# Altium schematic symbol library trafo.SCHLIB: 83 symbols
Pins are listed as number, name and electrical type; pins without a type are passive.

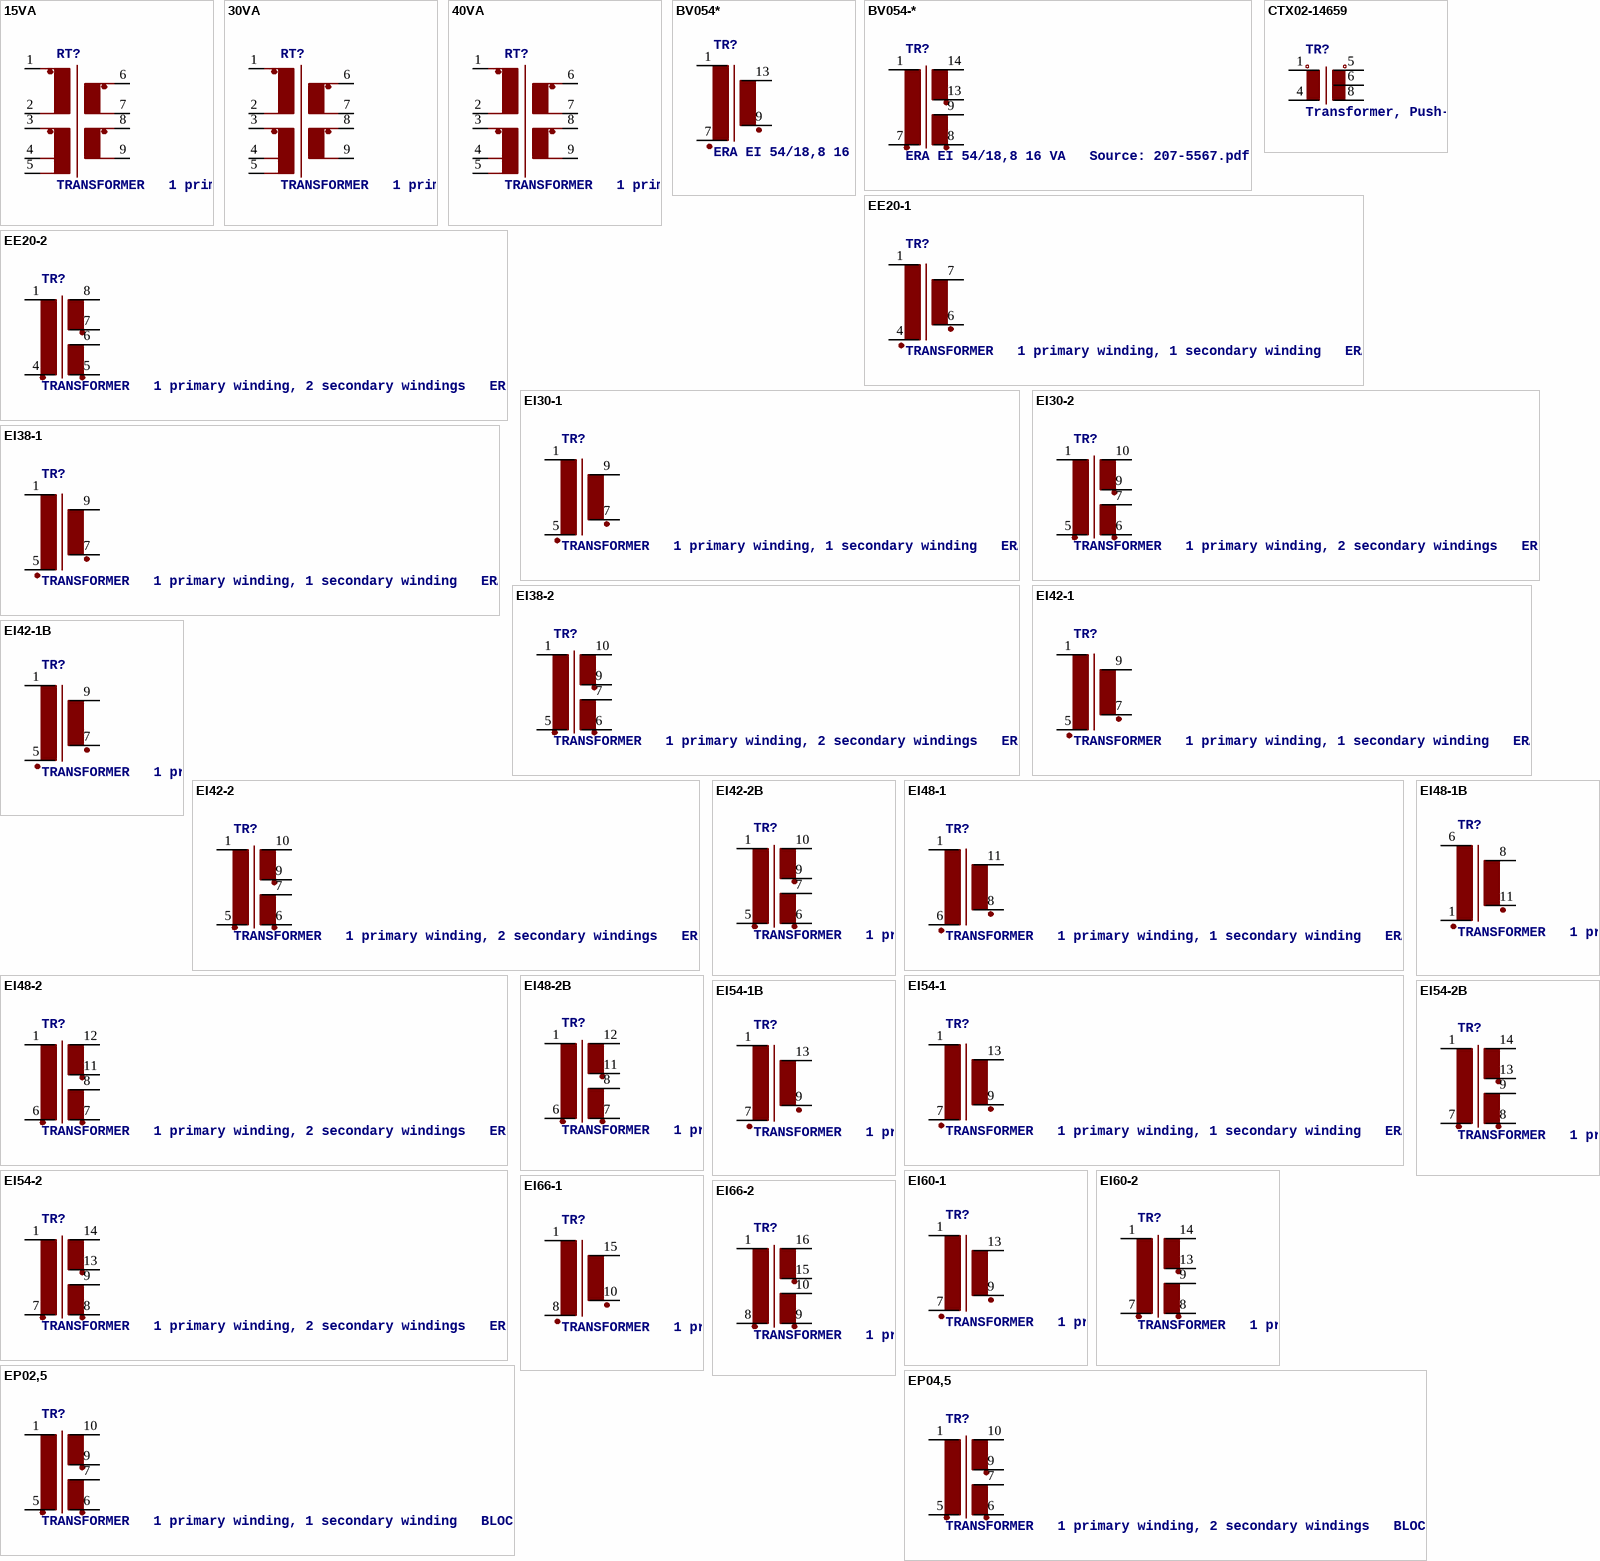
[diagram p0: symbols 15VA to EP04,5]

## 15VA
designator RT?, comment TRANSFORMER   1 primary windig + 1 primary winding with tap, 2 secondary windings, core ring
footprint 15VA
pins: 1, 2, 3, 4, 5, 6, 7, 8, 9

## 30VA
designator RT?, comment TRANSFORMER   1 primary windig + 1 primary winding with tap, 2 secondary windings, core ring
footprint 30VA
pins: 1, 2, 3, 4, 5, 6, 7, 8, 9

## 40VA
designator RT?, comment TRANSFORMER   1 primary windig + 1 primary winding with tap, 2 secondary windings, core ring
footprint 40VA
pins: 1, 2, 3, 4, 5, 6, 7, 8, 9

## BV054*
designator TR?, comment ERA EI 54/18,8 16 VA   Distributor: RS-Component RS 207-5523 230V / 9V RS 207-9727 230V - 12V RS 207-5551 230V - 15V RS 207-5539 230V - 18V RS 207-5567 230V - 24V Source: 207-5567.pdf
footprint EI54-18,8_16VA
pins: 1 P1, 7 P2, 9 S3, 13 S4

## BV054-*
designator TR?, comment ERA EI 54/18,8 16 VA   Source: 207-5567.pdf
footprint EI54-18,8_16VA
pins: 1, 7 2, 8 3, 9 4, 13 5, 14 6

## CTX02-14659
designator TR?, comment Transformer, Push-Pull 300kHz, 547uH, ER 9.5, SMT, gull wing, 8 pads   Source: COOPERE ELECTRONIC TECHNOLOGIES .. ctx02-14659.pdf
footprint CTX02-14659
pins: 1, 4 2, 5, 6 4, 8 3

## EE20-1
designator TR?, comment TRANSFORMER   1 primary winding, 1 secondary winding   ERA
footprint EE20-1
pins: 1 P1, 4 P2, 6 S3, 7 S4

## EE20-2
designator TR?, comment TRANSFORMER   1 primary winding, 2 secondary windings   ERA
footprint EE20-2
pins: 1, 4 2, 5 3, 6 4, 7 5, 8 6

## EI30-1
designator TR?, comment TRANSFORMER   1 primary winding, 1 secondary winding   ERA
footprint EI30-1
pins: 1 P1, 5 P2, 7 S3, 9 S4

## EI30-2
designator TR?, comment TRANSFORMER   1 primary winding, 2 secondary windings   ERA
footprint EI30-2
pins: 1, 5 2, 6 3, 7 4, 9 5, 10 6

## EI38-1
designator TR?, comment TRANSFORMER   1 primary winding, 1 secondary winding   ERA
footprint EI38-1
pins: 1 P1, 5 P2, 7 S3, 9 S4

## EI38-2
designator TR?, comment TRANSFORMER   1 primary winding, 2 secondary windings   ERA
footprint EI38-2
pins: 1, 5 2, 6 3, 7 4, 9 5, 10 6

## EI42-1
designator TR?, comment TRANSFORMER   1 primary winding, 1 secondary winding   ERA
footprint EI42-1
pins: 1 P1, 5 P2, 7 S3, 9 S4

## EI42-1B
designator TR?, comment TRANSFORMER   1 primary winding, 1 secondary winding, mounting holes   ERA
footprint EI42-1B
pins: 1 P1, 5 P2, 7 S3, 9 S4

## EI42-2
designator TR?, comment TRANSFORMER   1 primary winding, 2 secondary windings   ERA
footprint EI42-2
pins: 1, 5 2, 6 3, 7 4, 9 5, 10 6

## EI42-2B
designator TR?, comment TRANSFORMER   1 primary winding, 2 secondary windings, mounting holes   ERA
footprint EI42-2B
pins: 1, 5 2, 6 3, 7 4, 9 5, 10 6

## EI48-1
designator TR?, comment TRANSFORMER   1 primary winding, 1 secondary winding   ERA
footprint EI48-1
pins: 1 P1, 6 P2, 8 S3, 11 S4

## EI48-1B
designator TR?, comment TRANSFORMER   1 primary winding, 1 secondary winding, mounting holes   ERA
footprint EI48-1B
pins: 1 P2, 6 P1, 8 S4, 11 S3

## EI48-2
designator TR?, comment TRANSFORMER   1 primary winding, 2 secondary windings   ERA
footprint EI48-2
pins: 1, 6 2, 7 3, 8 4, 11 5, 12 6

## EI48-2B
designator TR?, comment TRANSFORMER   1 primary winding, 2 secondary windings, mounting holes   ERA
footprint EI48-2B
pins: 1, 6 2, 7 3, 8 4, 11 5, 12 6

## EI54-1
designator TR?, comment TRANSFORMER   1 primary winding, 1 secondary winding   ERA
footprint EI54-1
pins: 1 P1, 7 P2, 9 S3, 13 S4

## EI54-1B
designator TR?, comment TRANSFORMER   1 primary winding, 1 secondary winding, mounting holes   ERA
footprint EI54-1B
pins: 1 P1, 7 P2, 9 S3, 13 S4

## EI54-2
designator TR?, comment TRANSFORMER   1 primary winding, 2 secondary windings   ERA
footprint EI54-2
pins: 1, 7 2, 8 3, 9 4, 13 5, 14 6

## EI54-2B
designator TR?, comment TRANSFORMER   1 primary winding, 2 secondary windings, mounting holes   ERA
footprint EI54-2B
pins: 1, 7 2, 8 3, 9 4, 13 5, 14 6

## EI60-1
designator TR?, comment TRANSFORMER   1 primary winding, 1 secondary winding, mounting holes   ERA
footprint EI60-1
pins: 1 P1, 7 P2, 9 S3, 13 S4

## EI60-2
designator TR?, comment TRANSFORMER   1 primary winding, 2 secondary windings, mounting holes   ERA
footprint EI60-2
pins: 1, 7 2, 8 3, 9 4, 13 5, 14 6

## EI66-1
designator TR?, comment TRANSFORMER   1 primary winding, 1 secondary winding, mounting holes   ERA
footprint EI66-1
pins: 1 P1, 8 P2, 10 S3, 15 S4

## EI66-2
designator TR?, comment TRANSFORMER   1 primary winding, 2 secondary windings, mounting holes   ERA
footprint EI66-2
pins: 1, 8 2, 9 3, 10 4, 15 5, 16 6

## EP02,5
designator TR?, comment TRANSFORMER   1 primary winding, 1 secondary winding   BLOCK
footprint EP02,5
pins: 1, 5 2, 6 3, 7 4, 9 5, 10 6

## EP04,5
designator TR?, comment TRANSFORMER   1 primary winding, 2 secondary windings   BLOCK
footprint EP04,5
pins: 1, 5 2, 6 3, 7 4, 9 5, 10 6

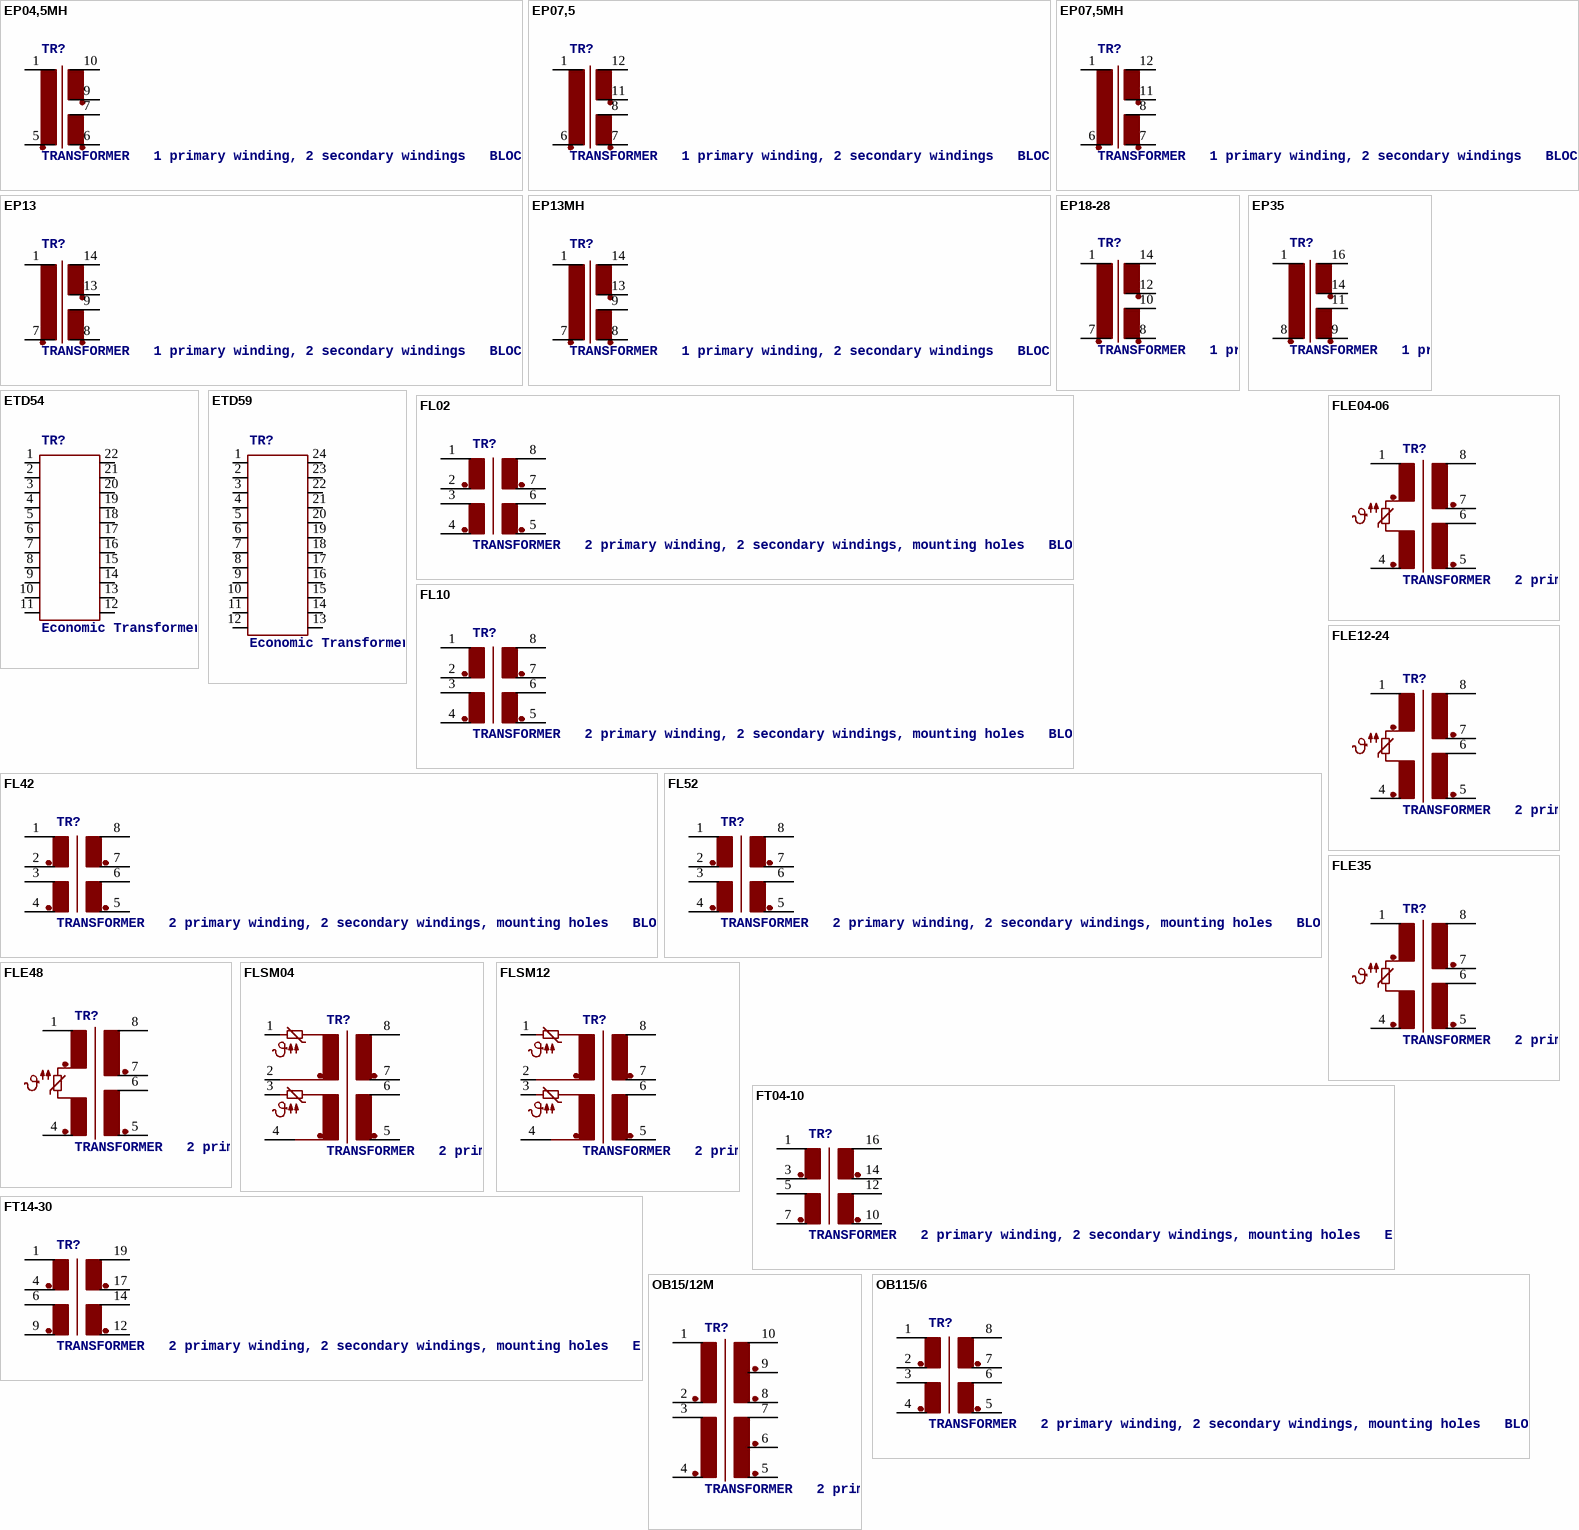
[diagram p1: symbols EP04,5MH to OB115/6]

## EP04,5MH
designator TR?, comment TRANSFORMER   1 primary winding, 2 secondary windings   BLOCK
footprint EP04,5B
pins: 1, 5 2, 6 3, 7 4, 9 5, 10 6

## EP07,5
designator TR?, comment TRANSFORMER   1 primary winding, 2 secondary windings   BLOCK
footprint EP07,5
pins: 1, 6 2, 7 3, 8 4, 11 5, 12 6

## EP07,5MH
designator TR?, comment TRANSFORMER   1 primary winding, 2 secondary windings   BLOCK
footprint EP07,5B
pins: 1, 6 2, 7 3, 8 4, 11 5, 12 6

## EP13
designator TR?, comment TRANSFORMER   1 primary winding, 2 secondary windings   BLOCK
footprint EP13
pins: 1, 7 2, 8 3, 9 4, 13 5, 14 6

## EP13MH
designator TR?, comment TRANSFORMER   1 primary winding, 2 secondary windings   BLOCK
footprint EP13B
pins: 1, 7 2, 8 3, 9 4, 13 5, 14 6

## EP18-28
designator TR?, comment TRANSFORMER   1 primary winding, 2 secondary windings, mounting holes   BLOCK
footprint EP18-28
pins: 1, 7 2, 8 3, 10 4, 12 5, 14 6

## EP35
designator TR?, comment TRANSFORMER   1 primary winding, 2 secondary windings, mounting holes   BLOCK
footprint EP35
pins: 1, 8 2, 9 3, 11 4, 14 5, 16 6

## ETD54
designator TR?, comment Economic Transformer Design   Source: www.hogenkamp-trafo.de .. ferrit_bauform.pdf
footprint ETD54
pins: 1, 2, 3, 4, 5, 6, 7, 8, 9, 10, 11, 12, 13, 14, 15, 16, 17, 18, 19, 20, 21, 22

## ETD59
designator TR?, comment Economic Transformer Design   Source: www.hogenkamp-trafo.de .. ferrit_bauform.pdf
footprint ETD59
pins: 1, 2, 3, 4, 5, 6, 7, 8, 9, 10, 11, 12, 13, 14, 15, 16, 17, 18, 19, 20, 21, 22, 23, 24

## FL02
designator TR?, comment TRANSFORMER   2 primary winding, 2 secondary windings, mounting holes   BLOCK
footprint FL02-08
pins: 1, 2, 3, 4, 5, 6, 7, 8

## FL10
designator TR?, comment TRANSFORMER   2 primary winding, 2 secondary windings, mounting holes   BLOCK
footprint FL10-30
pins: 1, 2, 3, 4, 5, 6, 7, 8

## FL42
designator TR?, comment TRANSFORMER   2 primary winding, 2 secondary windings, mounting holes   BLOCK
footprint FL42
pins: 1, 2, 3, 4, 5, 6, 7, 8

## FL52
designator TR?, comment TRANSFORMER   2 primary winding, 2 secondary windings, mounting holes   BLOCK
footprint FL52
pins: 1, 2, 3, 4, 5, 6, 7, 8

## FLE04-06
designator TR?, comment TRANSFORMER   2 primary winding, temp. protection fuse, 2 secondary windings, mounting holes   BLOCK
footprint FLE04-06
pins: 1, 4, 5, 6, 7, 8

## FLE12-24
designator TR?, comment TRANSFORMER   2 primary winding, temp. protection fuse, 2 secondary windings, mounting holes   BLOCK
footprint FLE12-24
pins: 1, 4, 5, 6, 7, 8

## FLE35
designator TR?, comment TRANSFORMER   2 primary winding, temp. protection fuse, 2 secondary windings, mounting holes   BLOCK
footprint FLE35
pins: 1, 4, 5, 6, 7, 8

## FLE48
designator TR?, comment TRANSFORMER   2 primary winding, temp. protection fuse, 2 secondary windings, mounting holes   BLOCK
footprint FLE48
pins: 1, 4, 5, 6, 7, 8

## FLSM04
designator TR?, comment TRANSFORMER   2 primary winding, temp. protection fuse, 2 secondary windings, smd pads, mounting holes   BLOCK
footprint FLSM04
pins: 1, 2, 3, 4, 5, 6, 7, 8

## FLSM12
designator TR?, comment TRANSFORMER   2 primary winding, temp. protection fuse, 2 secondary windings, smd pads,, mounting holes   BLOCK
footprint FLSM12
pins: 1, 2, 3, 4, 5, 6, 7, 8

## FT04-10
designator TR?, comment TRANSFORMER   2 primary winding, 2 secondary windings, mounting holes   ERA
footprint FT04-10
pins: 1, 3 2, 5 3, 7 4, 10 5, 12 6, 14 7, 16 8

## FT14-30
designator TR?, comment TRANSFORMER   2 primary winding, 2 secondary windings, mounting holes   ERA
footprint FT14-30
pins: 1, 4 2, 6 3, 9 4, 12 5, 14 6, 17 7, 19 8

## OB15/12M
designator TR?, comment TRANSFORMER   2 primary winding, 2 secondary windings with tap, mounting holes   BLOCK
footprint OB15/12M
pins: 1, 2, 3, 4, 5, 6, 7, 8, 9, 10

## OB115/6
designator TR?, comment TRANSFORMER   2 primary winding, 2 secondary windings, mounting holes   BLOCK
footprint OB115/6
pins: 1, 2, 3, 4, 5, 6, 7, 8

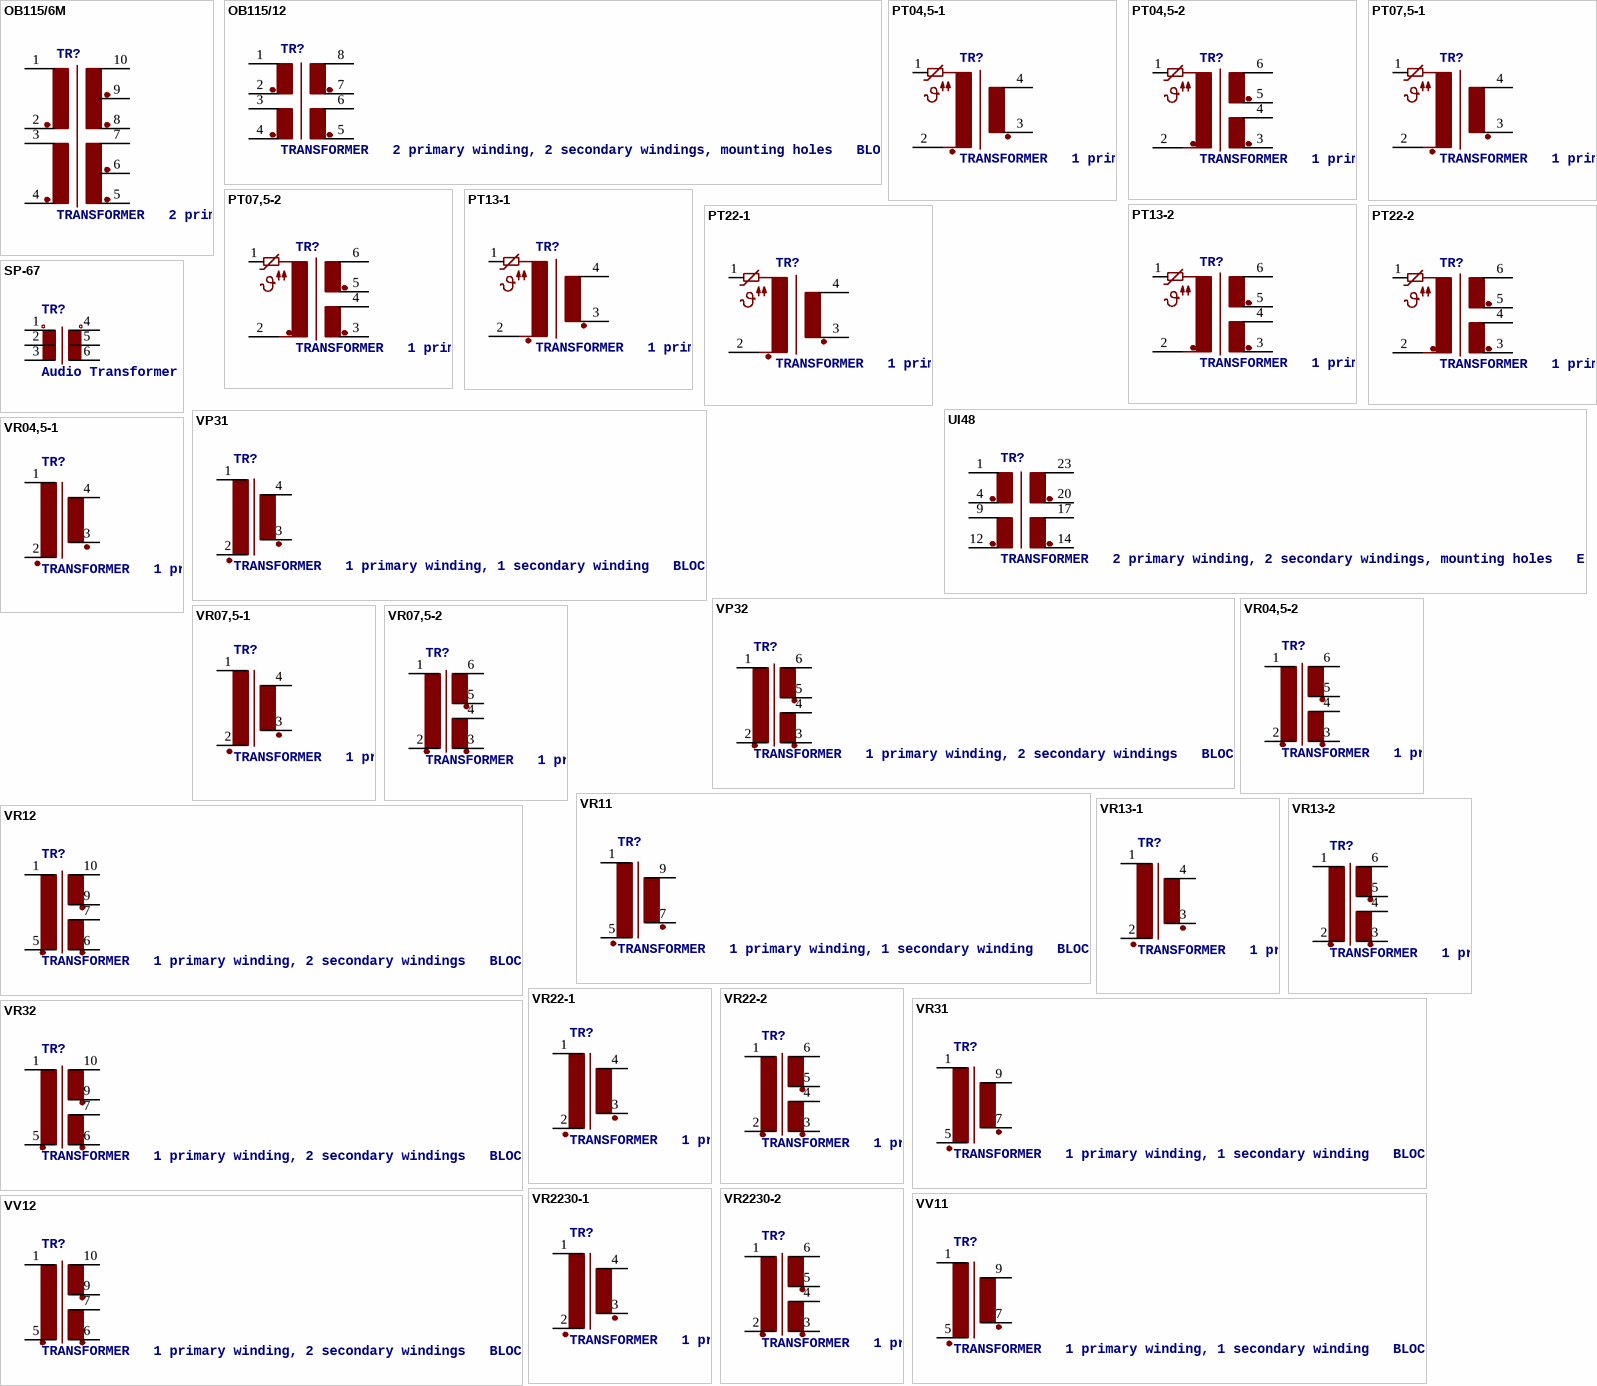
[diagram p2: symbols OB115/6M to VV12]

## OB115/6M
designator TR?, comment TRANSFORMER   2 primary winding, 2 secondary windings with tap, mounting holes   BLOCK
footprint OB115/6M
pins: 1, 2, 3, 4, 5, 6, 7, 8, 9, 10

## OB115/12
designator TR?, comment TRANSFORMER   2 primary winding, 2 secondary windings, mounting holes   BLOCK
footprint OB115/12
pins: 1, 2, 3, 4, 5, 6, 7, 8

## PT04,5-1
designator TR?, comment TRANSFORMER   1 primary winding, temp. protection fuse, 1 secondary winding/ mounting hole   BLOCK
footprint PT04,5-1
pins: 1, 2, 3, 4

## PT04,5-2
designator TR?, comment TRANSFORMER   1 primary winding, temp. protection fuse, 2 secondary windings/ mounting hole   BLOCK
footprint PT04,5-2
pins: 1, 2, 3, 4, 5, 6

## PT07,5-1
designator TR?, comment TRANSFORMER   1 primary winding, temp. protection fuse, 1 secondary winding, mounting holes   BLOCK
footprint PT07,5-1
pins: 1, 2, 3, 4

## PT07,5-2
designator TR?, comment TRANSFORMER   1 primary winding, temp. protection fuse, 2 secondary windings, mounting holes   BLOCK
footprint PT07,5-2
pins: 1, 2, 3, 4, 5, 6

## PT13-1
designator TR?, comment TRANSFORMER   1 primary winding, temp. protection fuse, 1 secondary winding, mounting holes   BLOCK
footprint PT13-1
pins: 1, 2, 3, 4

## PT13-2
designator TR?, comment TRANSFORMER   1 primary winding, temp. protection fuse, 2 secondary windings, mounting holes   BLOCK
footprint PT13-2
pins: 1, 2, 3, 4, 5, 6

## PT22-1
designator TR?, comment TRANSFORMER   1 primary winding, temp. protection fuse, 1 secondary winding, mounting holes   BLOCK
footprint PT22-1
pins: 1, 2, 3, 4

## PT22-2
designator TR?, comment TRANSFORMER   1 primary winding, temp. protection fuse, 2 secondary windings, mounting holes   BLOCK
footprint PT22-2
pins: 1, 2, 3, 4, 5, 6

## SP-67
designator TR?, comment Audio Transformer MIL-T-27E High Reliability: Red Spec Series   Source: www.triadmagnetics.com ..  SP-67.pdf
footprint SP-67
pins: 1, 2, 3, 4, 5, 6

## UI48
designator TR?, comment TRANSFORMER   2 primary winding, 2 secondary windings, mounting holes   ERA
footprint UI48
pins: 1, 4 2, 9 3, 12 4, 14 5, 17 6, 20 7, 23 8

## VP31
designator TR?, comment TRANSFORMER   1 primary winding, 1 secondary winding   BLOCK
footprint VP31
pins: 1 P1, 2 P2, 3 S3, 4 S4

## VP32
designator TR?, comment TRANSFORMER   1 primary winding, 2 secondary windings   BLOCK
footprint VP32
pins: 1, 2, 3, 4, 5, 6

## VR04,5-1
designator TR?, comment TRANSFORMER   1 primary winding, 1 secondary winding, mounting holes   BLOCK
footprint VR04,5-1
pins: 1 P1, 2 P2, 3 S3, 4 S4

## VR04,5-2
designator TR?, comment TRANSFORMER   1 primary winding, 2 secondary windings, mounting holes   BLOCK
footprint VR04,5-2
pins: 1, 2, 3, 4, 5, 6

## VR07,5-1
designator TR?, comment TRANSFORMER   1 primary winding, 1 secondary winding, mounting holes   BLOCK
footprint VR07,5-1
pins: 1 P1, 2 P2, 3 S3, 4 S4

## VR07,5-2
designator TR?, comment TRANSFORMER   1 primary winding, 2 secondary windings, mounting holes   BLOCK
footprint VR07,5-2
pins: 1, 2, 3, 4, 5, 6

## VR11
designator TR?, comment TRANSFORMER   1 primary winding, 1 secondary winding   BLOCK
footprint VR11
pins: 1 P1, 5 P2, 7 S3, 9 S4

## VR12
designator TR?, comment TRANSFORMER   1 primary winding, 2 secondary windings   BLOCK
footprint VR12
pins: 1, 5 2, 6 3, 7 4, 9 5, 10 6

## VR13-1
designator TR?, comment TRANSFORMER   1 primary winding, 1 secondary winding, mounting holes   BLOCK
footprint VR13-1
pins: 1 P1, 2 P2, 3 S3, 4 S4

## VR13-2
designator TR?, comment TRANSFORMER   1 primary winding, 2 secondary windings, mounting holes   BLOCK
footprint VR13-2
pins: 1, 2, 3, 4, 5, 6

## VR22-1
designator TR?, comment TRANSFORMER   1 primary winding, 1 secondary winding, mounting holes   BLOCK
footprint VR22-1
pins: 1 P1, 2 P2, 3 S3, 4 S4

## VR22-2
designator TR?, comment TRANSFORMER   1 primary winding, 2 secondary windings, mounting holes   BLOCK
footprint VR22-2
pins: 1, 2, 3, 4, 5, 6

## VR31
designator TR?, comment TRANSFORMER   1 primary winding, 1 secondary winding   BLOCK
footprint VR31
pins: 1 P1, 5 P2, 7 S3, 9 S4

## VR32
designator TR?, comment TRANSFORMER   1 primary winding, 2 secondary windings   BLOCK
footprint VR32
pins: 1, 5 2, 6 3, 7 4, 9 5, 10 6

## VR2230-1
designator TR?, comment TRANSFORMER   1 primary winding, 1 secondary winding, mounting holes   BLOCK
footprint VR22-1
pins: 1 P1, 2 P2, 3 S3, 4 S4

## VR2230-2
designator TR?, comment TRANSFORMER   1 primary winding, 2 secondary windings, mounting holes   BLOCK
footprint VR22-2
pins: 1, 2, 3, 4, 5, 6

## VV11
designator TR?, comment TRANSFORMER   1 primary winding, 1 secondary winding   BLOCK
footprint VV11
pins: 1 P1, 5 P2, 7 S3, 9 S4

## VV12
designator TR?, comment TRANSFORMER   1 primary winding, 2 secondary windings   BLOCK
footprint VV12
pins: 1, 5 2, 6 3, 7 4, 9 5, 10 6